# EAGLE library part ADUM5402ARWZ (library ScouseTom_New)
Quad-Channel Isolators with Integrated DC-to-DC Converter
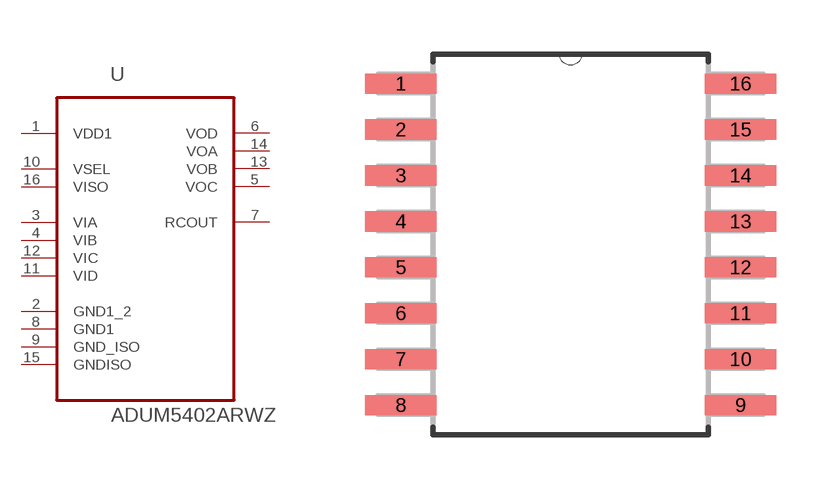
[diagram p3: symbol with the pads of SOIC127P1032X265-16N; footprint SOIC127P1032X265-16N]

Designator prefix U

## ADUM5402ARWZ (MPN: ADUM5402ARWZ; OC_FARNELL: 1838922; OC_NEWARK: 11N8824; PACKAGE: SOIC-16; SUPPLIER: Analog Devices)  [SOIC127P1032X265-16N]
1  VDD1  pwr
2  GND1_2  pas
3  VIA  in
4  VIB  in
5  VOC  out
6  VOD  out
7  RCOUT  out
8  GND1  pas
9  GND_ISO  pas
10  VSEL  in
11  VID  in
12  VIC  in
13  VOB  out
14  VOA  out
15  GNDISO  pas
16  VISO  pwr

## Footprint SOIC127P1032X265-16N (pad centres in mm)
smd 1.981 x 0.559: 1 -4.699,4.445; 2 -4.699,3.175; 3 -4.699,1.905; 4 -4.699,0.635; 5 -4.699,-0.635; 6 -4.699,-1.905; 7 -4.699,-3.175; 8 -4.699,-4.445; 9 4.699,-4.445; 10 4.699,-3.175; 11 4.699,-1.905; 12 4.699,-0.635; 13 4.699,0.635; 14 4.699,1.905; 15 4.699,3.175; 16 4.699,4.445